# Altium schematic symbol library SCHOTTKY.Schlib: 1 symbol
Pins are listed as number, name and electrical type; pins without a type are passive.

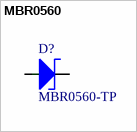
[diagram p0: symbol MBR0560]

## MBR0560
designator D?, comment MBR0560-TP
BUY_LINK: http://www.digikey.com/product-detail/en/MBR0560-TP/MBR0560TPMSDKR-ND/1775369; PRICE: 0.39000; ID: MBR0560-TP; PDF: http://www.mccsemi.com/up_pdf/MBR0520~MBR0580(SOD123).pdf
footprint SOD123
pins: A, C